# Altium schematic symbol library RF_Filter.SchLib: 200 symbols (part 1 of 2)
Pins are listed as number, name and electrical type; pins without a type are passive.

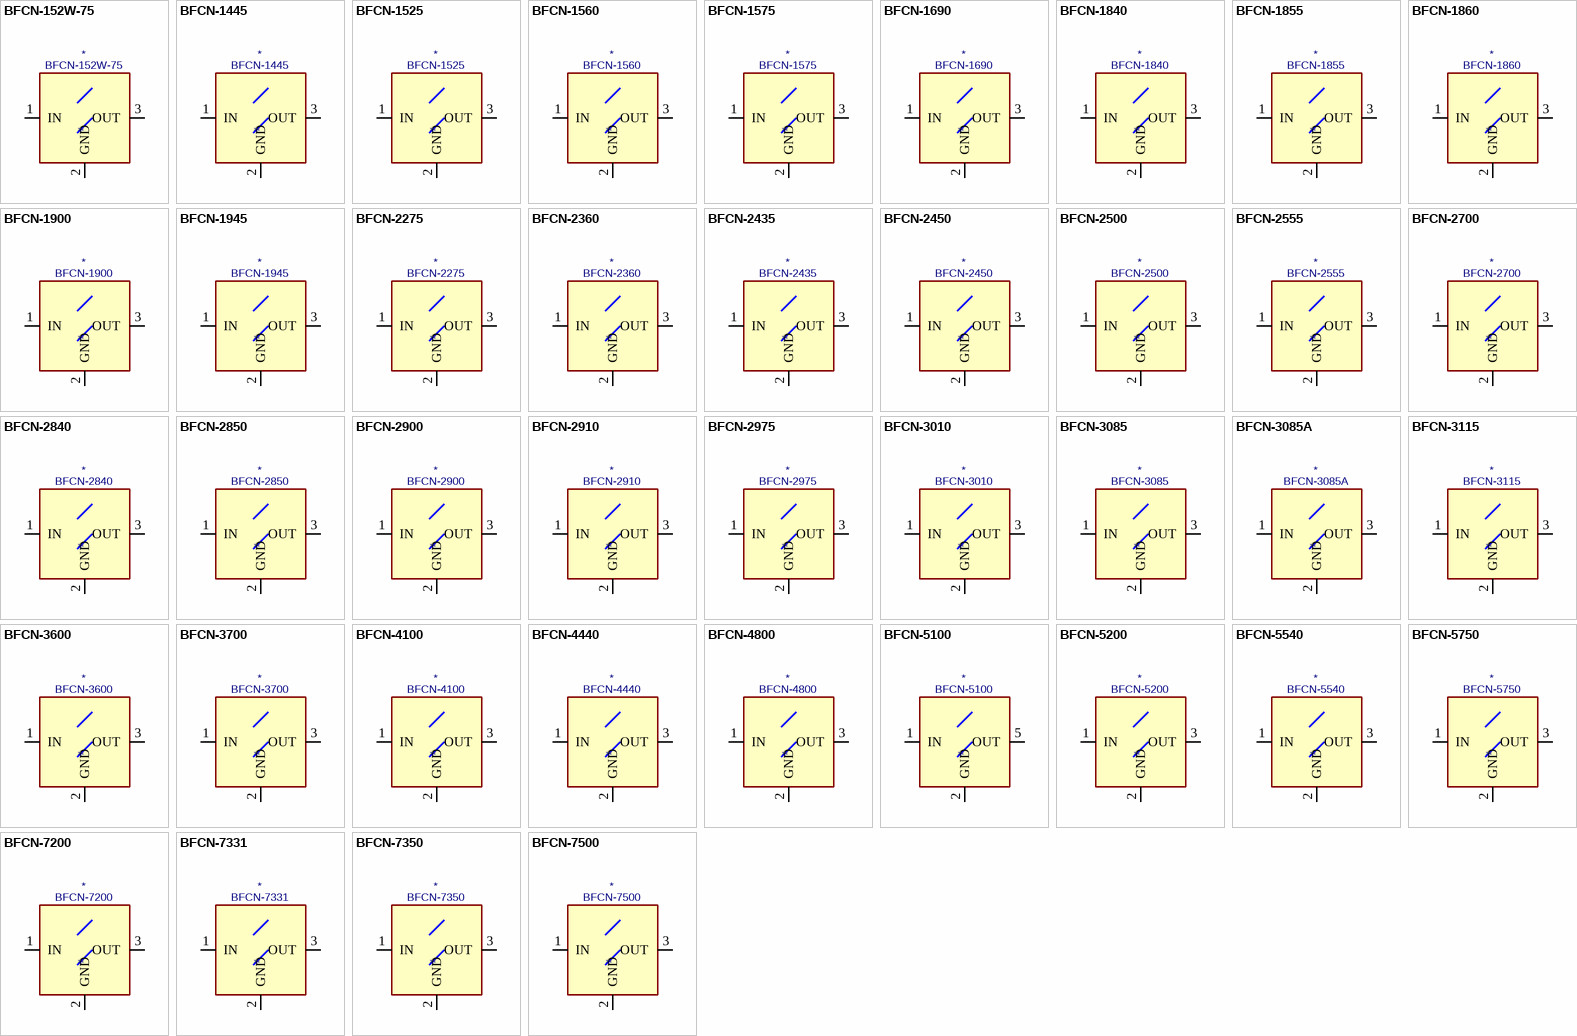
[diagram p0: symbols BFCN-152W-75 to BFCN-7500]

## BFCN-152W-75
designator *  value BFCN-152W-75
ki_keywords: Mini-Circuits band pass filter; ki_description: 950-1970MHz 75 Ohm Passive Band Pass Filter, FV1206-7; ki_fp_filters: Filter*Mini?Circuits*FV1206?7*; Footprint: Filter:Filter_Mini-Circuits_FV1206-7; Supplier: https://www.minicircuits.com/pdfs/BFCN-1445+.pdf
footprint Filter_Mini-Circuits_FV1206-7
pins: 1 IN, 2 GND, 3 OUT

## BFCN-1445
designator *  value BFCN-1445
ki_keywords: Mini-Circuits band pass filter; ki_description: 1420-1470MHz 50 Ohm Passive Band Pass Filter, FV1206; ki_fp_filters: Filter*Mini?Circuits*FV1206*; Footprint: Filter:Filter_Mini-Circuits_FV1206; Supplier: https://www.minicircuits.com/pdfs/BFCN-1445+.pdf
footprint Filter_Mini-Circuits_FV1206
pins: 1 IN, 2 GND, 3 OUT, 4 GND hidden

## BFCN-1525
designator *  value BFCN-1525
ki_keywords: Mini-Circuits band pass filter; ki_description: 1480-1570MHz 50 Ohm Passive Band Pass Filter, FV1206; ki_fp_filters: Filter*Mini?Circuits*FV1206*; Footprint: Filter:Filter_Mini-Circuits_FV1206; Supplier: https://www.minicircuits.com/pdfs/BFCN-1525+.pdf
footprint Filter_Mini-Circuits_FV1206
pins: 1 IN, 2 GND, 3 OUT, 4 GND hidden

## BFCN-1560
designator *  value BFCN-1560
ki_keywords: Mini-Circuits band pass filter; ki_description: 1500-1620MHz 50 Ohm Passive Band Pass Filter, FV1206-1; ki_fp_filters: Filter*Mini?Circuits*FV1206?1*; Footprint: Filter:Filter_Mini-Circuits_FV1206-1; Supplier: https://www.minicircuits.com/pdfs/BFCN-1560+.pdf
footprint Filter_Mini-Circuits_FV1206-1
pins: 1 IN, 2 GND, 3 OUT, 4 GND hidden, 5 GND hidden, 6 GND hidden

## BFCN-1575
designator *  value BFCN-1575
ki_keywords: Mini-Circuits band pass filter; ki_description: 1530-1620MHz 50 Ohm Passive Band Pass Filter, FV1206; ki_fp_filters: Filter*Mini?Circuits*FV1206*; Footprint: Filter:Filter_Mini-Circuits_FV1206; Supplier: https://www.minicircuits.com/pdfs/BFCN-1575+.pdf
footprint Filter_Mini-Circuits_FV1206
pins: 1 IN, 2 GND, 3 OUT, 4 GND hidden

## BFCN-1690
designator *  value BFCN-1690
ki_keywords: Mini-Circuits band pass filter; ki_description: 1570-1810MHz 50 Ohm Passive Band Pass Filter, FV1206-1; ki_fp_filters: Filter*Mini?Circuits*FV1206?1*; Footprint: Filter:Filter_Mini-Circuits_FV1206-1; Supplier: https://www.minicircuits.com/pdfs/BFCN-1690+.pdf
footprint Filter_Mini-Circuits_FV1206-1
pins: 1 IN, 2 GND, 3 OUT, 4 GND hidden, 5 GND hidden, 6 GND hidden

## BFCN-1840
designator *  value BFCN-1840
ki_keywords: Mini-Circuits band pass filter; ki_description: 1750-1930MHz 50 Ohm Passive Band Pass Filter, FV1206; ki_fp_filters: Filter*Mini?Circuits*FV1206*; Footprint: Filter:Filter_Mini-Circuits_FV1206; Supplier: https://www.minicircuits.com/pdfs/BFCN-1840+.pdf
footprint Filter_Mini-Circuits_FV1206
pins: 1 IN, 2 GND, 3 OUT, 4 GND hidden

## BFCN-1855
designator *  value BFCN-1855
ki_keywords: Mini-Circuits band pass filter; ki_description: 1790-1920MHz 50 Ohm Passive Band Pass Filter, FV1206; ki_fp_filters: Filter*Mini?Circuits*FV1206*; Footprint: Filter:Filter_Mini-Circuits_FV1206; Supplier: https://www.minicircuits.com/pdfs/BFCN-1855+.pdf
footprint Filter_Mini-Circuits_FV1206
pins: 1 IN, 2 GND, 3 OUT, 4 GND hidden

## BFCN-1860
designator *  value BFCN-1860
ki_keywords: Mini-Circuits band pass filter; ki_description: 1580-2200MHz 50 Ohm Passive Band Pass Filter, FV1206-4; ki_fp_filters: Filter*Mini?Circuits*FV1206?4*; Footprint: Filter:Filter_Mini-Circuits_FV1206-4; Supplier: https://www.minicircuits.com/pdfs/BFCN-1860+.pdf
footprint Filter_Mini-Circuits_FV1206-4
pins: 1 IN, 2 GND, 3 OUT, 4 GND hidden

## BFCN-1900
designator *  value BFCN-1900
ki_keywords: Mini-Circuits band pass filter; ki_description: 1893-1920MHz 50 Ohm Passive Band Pass Filter, FV1206-5; ki_fp_filters: Filter*Mini?Circuits*FV1206?5*; Footprint: Filter:Filter_Mini-Circuits_FV1206-5; Supplier: https://www.minicircuits.com/pdfs/BFCN-1900+.pdf
footprint Filter_Mini-Circuits_FV1206-5
pins: 1 IN, 2 GND, 3 OUT, 4 GND hidden

## BFCN-1945
designator *  value BFCN-1945
ki_keywords: Mini-Circuits band pass filter; ki_description: 1850-2040MHz 50 Ohm Passive Band Pass Filter, FV1206; ki_fp_filters: Filter*Mini?Circuits*FV1206*; Footprint: Filter:Filter_Mini-Circuits_FV1206; Supplier: https://www.minicircuits.com/pdfs/BFCN-1945+.pdf
footprint Filter_Mini-Circuits_FV1206
pins: 1 IN, 2 GND, 3 OUT, 4 GND hidden

## BFCN-2275
designator *  value BFCN-2275
ki_keywords: Mini-Circuits band pass filter; ki_description: 2170-2380MHz 50 Ohm Passive Band Pass Filter, FV1206; ki_fp_filters: Filter*Mini?Circuits*FV1206*; Footprint: Filter:Filter_Mini-Circuits_FV1206; Supplier: https://www.minicircuits.com/pdfs/BFCN-2275+.pdf
footprint Filter_Mini-Circuits_FV1206
pins: 1 IN, 2 GND, 3 OUT, 4 GND hidden

## BFCN-2360
designator *  value BFCN-2360
ki_keywords: Mini-Circuits band pass filter; ki_description: 2250-2470MHz 50 Ohm Passive Band Pass Filter, FV1206; ki_fp_filters: Filter*Mini?Circuits*FV1206*; Footprint: Filter:Filter_Mini-Circuits_FV1206; Supplier: https://www.minicircuits.com/pdfs/BFCN-2360+.pdf
footprint Filter_Mini-Circuits_FV1206
pins: 1 IN, 2 GND, 3 OUT, 4 GND hidden

## BFCN-2435
designator *  value BFCN-2435
ki_keywords: Mini-Circuits band pass filter; ki_description: 2340-2530MHz 50 Ohm Passive Band Pass Filter, FV1206; ki_fp_filters: Filter*Mini?Circuits*FV1206*; Footprint: Filter:Filter_Mini-Circuits_FV1206; Supplier: https://www.minicircuits.com/pdfs/BFCN-2435+.pdf
footprint Filter_Mini-Circuits_FV1206
pins: 1 IN, 2 GND, 3 OUT, 4 GND hidden

## BFCN-2450
designator *  value BFCN-2450
ki_keywords: Mini-Circuits band pass filter; ki_description: 2400-2550MHz 50 Ohm Passive Band Pass Filter, FV1206-4; ki_fp_filters: Filter*Mini?Circuits*FV1206?4*; Footprint: Filter:Filter_Mini-Circuits_FV1206-4; Supplier: https://www.minicircuits.com/pdfs/BFCN-2450+.pdf
footprint Filter_Mini-Circuits_FV1206-4
pins: 1 IN, 2 GND, 3 OUT, 4 GND hidden

## BFCN-2500
designator *  value BFCN-2500
ki_keywords: Mini-Circuits band pass filter; ki_description: 2100-2900MHz 50 Ohm Passive Band Pass Filter, FV1206-4; ki_fp_filters: Filter*Mini?Circuits*FV1206?4*; Footprint: Filter:Filter_Mini-Circuits_FV1206-4; Supplier: https://www.minicircuits.com/pdfs/BFCN-2500+.pdf
footprint Filter_Mini-Circuits_FV1206-4
pins: 1 IN, 2 GND, 3 OUT, 4 GND hidden

## BFCN-2555
designator *  value BFCN-2555
ki_keywords: Mini-Circuits band pass filter; ki_description: 2500-2610MHz 50 Ohm Passive Band Pass Filter, FV1206-1; ki_fp_filters: Filter*Mini?Circuits*FV1206?1*; Footprint: Filter:Filter_Mini-Circuits_FV1206-1; Supplier: https://www.minicircuits.com/pdfs/BFCN-2555+.pdf
footprint Filter_Mini-Circuits_FV1206-1
pins: 1 IN, 2 GND, 3 OUT, 4 GND hidden, 5 GND hidden, 6 GND hidden

## BFCN-2700
designator *  value BFCN-2700
ki_keywords: Mini-Circuits band pass filter; ki_description: 2600-2800MHz 50 Ohm Passive Band Pass Filter, FV1206; ki_fp_filters: Filter*Mini?Circuits*FV1206*; Footprint: Filter:Filter_Mini-Circuits_FV1206; Supplier: https://www.minicircuits.com/pdfs/BFCN-2700+.pdf
footprint Filter_Mini-Circuits_FV1206
pins: 1 IN, 2 GND, 3 OUT, 4 GND hidden

## BFCN-2840
designator *  value BFCN-2840
ki_keywords: Mini-Circuits band pass filter; ki_description: 2750-2930MHz 50 Ohm Passive Band Pass Filter, FV1206; ki_fp_filters: Filter*Mini?Circuits*FV1206*; Footprint: Filter:Filter_Mini-Circuits_FV1206; Supplier: https://www.minicircuits.com/pdfs/BFCN-2840+.pdf
footprint Filter_Mini-Circuits_FV1206
pins: 1 IN, 2 GND, 3 OUT, 4 GND hidden

## BFCN-2850
designator *  value BFCN-2850
ki_keywords: Mini-Circuits band pass filter; ki_description: 2750-2950MHz 50 Ohm Passive Band Pass Filter, FV1206; ki_fp_filters: Filter*Mini?Circuits*FV1206*; Footprint: Filter:Filter_Mini-Circuits_FV1206; Supplier: https://www.minicircuits.com/pdfs/BFCN-2850+.pdf
footprint Filter_Mini-Circuits_FV1206
pins: 1 IN, 2 GND, 3 OUT, 4 GND hidden

## BFCN-2900
designator *  value BFCN-2900
ki_keywords: Mini-Circuits band pass filter; ki_description: 2700-3100MHz 50 Ohm Passive Band Pass Filter, FV1206-1; ki_fp_filters: Filter*Mini?Circuits*FV1206?1*; Footprint: Filter:Filter_Mini-Circuits_FV1206-1; Supplier: https://www.minicircuits.com/pdfs/BFCN-2900+.pdf
footprint Filter_Mini-Circuits_FV1206-1
pins: 1 IN, 2 GND, 3 OUT, 4 GND hidden, 5 GND hidden, 6 GND hidden

## BFCN-2910
designator *  value BFCN-2910
ki_keywords: Mini-Circuits band pass filter; ki_description: 2850-2970MHz 50 Ohm Passive Band Pass Filter, FV1206; ki_fp_filters: Filter*Mini?Circuits*FV1206*; Footprint: Filter:Filter_Mini-Circuits_FV1206; Supplier: https://www.minicircuits.com/pdfs/BFCN-2910+.pdf
footprint Filter_Mini-Circuits_FV1206
pins: 1 IN, 2 GND, 3 OUT, 4 GND hidden

## BFCN-2975
designator *  value BFCN-2975
ki_keywords: Mini-Circuits band pass filter; ki_description: 2570-3440MHz 50 Ohm Passive Band Pass Filter, FV1206; ki_fp_filters: Filter*Mini?Circuits*FV1206*; Footprint: Filter:Filter_Mini-Circuits_FV1206; Supplier: https://www.minicircuits.com/pdfs/BFCN-2975+.pdf
footprint Filter_Mini-Circuits_FV1206
pins: 1 IN, 2 GND, 3 OUT, 4 GND hidden

## BFCN-3010
designator *  value BFCN-3010
ki_keywords: Mini-Circuits band pass filter; ki_description: 2920-3100MHz 50 Ohm Passive Band Pass Filter, FV1206; ki_fp_filters: Filter*Mini?Circuits*FV1206*; Footprint: Filter:Filter_Mini-Circuits_FV1206; Supplier: https://www.minicircuits.com/pdfs/BFCN-3010+.pdf
footprint Filter_Mini-Circuits_FV1206
pins: 1 IN, 2 GND, 3 OUT, 4 GND hidden

## BFCN-3085
designator *  value BFCN-3085
ki_keywords: Mini-Circuits band pass filter; ki_description: 2800-3400MHz 50 Ohm Passive Band Pass Filter, FV1206; ki_fp_filters: Filter*Mini?Circuits*FV1206*; Footprint: Filter:Filter_Mini-Circuits_FV1206; Supplier: https://www.minicircuits.com/pdfs/BFCN-3085+.pdf
footprint Filter_Mini-Circuits_FV1206
pins: 1 IN, 2 GND, 3 OUT, 4 GND hidden

## BFCN-3085A
designator *  value BFCN-3085A
ki_keywords: Mini-Circuits band pass filter; ki_description: 2800-3400MHz 50 Ohm Passive Band Pass Filter, FV1206; ki_fp_filters: Filter*Mini?Circuits*FV1206*; Footprint: Filter:Filter_Mini-Circuits_FV1206; Supplier: https://www.minicircuits.com/pdfs/BFCN-3085A+.pdf
footprint Filter_Mini-Circuits_FV1206
pins: 1 IN, 2 GND, 3 OUT, 4 GND hidden

## BFCN-3115
designator *  value BFCN-3115
ki_keywords: Mini-Circuits band pass filter; ki_description: 2720-3570MHz 50 Ohm Passive Band Pass Filter, FV1206; ki_fp_filters: Filter*Mini?Circuits*FV1206*; Footprint: Filter:Filter_Mini-Circuits_FV1206; Supplier: https://www.minicircuits.com/pdfs/BFCN-3115+.pdf
footprint Filter_Mini-Circuits_FV1206
pins: 1 IN, 2 GND, 3 OUT, 4 GND hidden

## BFCN-3600
designator *  value BFCN-3600
ki_keywords: Mini-Circuits band pass filter; ki_description: 3300-3900MHz 50 Ohm Passive Band Pass Filter, FV1206; ki_fp_filters: Filter*Mini?Circuits*FV1206*; Footprint: Filter:Filter_Mini-Circuits_FV1206; Supplier: https://www.minicircuits.com/pdfs/BFCN-3600+.pdf
footprint Filter_Mini-Circuits_FV1206
pins: 1 IN, 2 GND, 3 OUT, 4 GND hidden

## BFCN-3700
designator *  value BFCN-3700
ki_keywords: Mini-Circuits band pass filter; ki_description: 3000-4600MHz 50 Ohm Passive Band Pass Filter, FV1206-4; ki_fp_filters: Filter*Mini?Circuits*FV1206?4*; Footprint: Filter:Filter_Mini-Circuits_FV1206-4; Supplier: https://www.minicircuits.com/pdfs/BFCN-3700+.pdf
footprint Filter_Mini-Circuits_FV1206-4
pins: 1 IN, 2 GND, 3 OUT, 4 GND hidden

## BFCN-4100
designator *  value BFCN-4100
ki_keywords: Mini-Circuits band pass filter; ki_description: 3700-4500MHz 50 Ohm Passive Band Pass Filter, FV1206; ki_fp_filters: Filter*Mini?Circuits*FV1206*; Footprint: Filter:Filter_Mini-Circuits_FV1206; Supplier: https://www.minicircuits.com/pdfs/BFCN-4100+.pdf
footprint Filter_Mini-Circuits_FV1206
pins: 1 IN, 2 GND, 3 OUT, 4 GND hidden

## BFCN-4440
designator *  value BFCN-4440
ki_keywords: Mini-Circuits band pass filter; ki_description: 4200-4700MHz 50 Ohm Passive Band Pass Filter, FV1206; ki_fp_filters: Filter*Mini?Circuits*FV1206*; Footprint: Filter:Filter_Mini-Circuits_FV1206; Supplier: https://www.minicircuits.com/pdfs/BFCN-4440+.pdf
footprint Filter_Mini-Circuits_FV1206
pins: 1 IN, 2 GND, 3 OUT, 4 GND hidden

## BFCN-4800
designator *  value BFCN-4800
ki_keywords: Mini-Circuits band pass filter; ki_description: 4400-5200MHz 50 Ohm Passive Band Pass Filter, FV1206; ki_fp_filters: Filter*Mini?Circuits*FV1206*; Footprint: Filter:Filter_Mini-Circuits_FV1206; Supplier: https://www.minicircuits.com/pdfs/BFCN-4800+.pdf
footprint Filter_Mini-Circuits_FV1206
pins: 1 IN, 2 GND, 3 OUT, 4 GND hidden

## BFCN-5100
designator *  value BFCN-5100
ki_keywords: Mini-Circuits band pass filter; ki_description: 3100-7100MHz 50 Ohm Passive Band Pass Filter, FV1206-6; ki_fp_filters: Filter*Mini?Circuits*FV1206?6*; Footprint: Filter:Filter_Mini-Circuits_FV1206-6; Supplier: https://www.minicircuits.com/pdfs/BFCN-5100+.pdf
footprint Filter_Mini-Circuits_FV1206-6
pins: 1 IN, 2 GND, 3 GND hidden, 4 GND hidden, 5 OUT, 6 GND hidden, 7 GND hidden, 8 GND hidden

## BFCN-5200
designator *  value BFCN-5200
ki_keywords: Mini-Circuits band pass filter; ki_description: 4250-6300MHz 50 Ohm Passive Band Pass Filter, FV1206-4; ki_fp_filters: Filter*Mini?Circuits*FV1206?4*; Footprint: Filter:Filter_Mini-Circuits_FV1206-4; Supplier: https://www.minicircuits.com/pdfs/BFCN-5200+.pdf
footprint Filter_Mini-Circuits_FV1206-4
pins: 1 IN, 2 GND, 3 OUT, 4 GND hidden

## BFCN-5540
designator *  value BFCN-5540
ki_keywords: Mini-Circuits band pass filter; ki_description: 4620-6640MHz 50 Ohm Passive Band Pass Filter, FV1206-4; ki_fp_filters: Filter*Mini?Circuits*FV1206?4*; Footprint: Filter:Filter_Mini-Circuits_FV1206-4; Supplier: https://www.minicircuits.com/pdfs/BFCN-5540+.pdf
footprint Filter_Mini-Circuits_FV1206-4
pins: 1 IN, 2 GND, 3 OUT, 4 GND hidden

## BFCN-5750
designator *  value BFCN-5750
ki_keywords: Mini-Circuits band pass filter; ki_description: 5650-5850MHz 50 Ohm Passive Band Pass Filter, FV1206-4; ki_fp_filters: Filter*Mini?Circuits*FV1206?4*; Footprint: Filter:Filter_Mini-Circuits_FV1206-4; Supplier: https://www.minicircuits.com/pdfs/BFCN-5750+.pdf
footprint Filter_Mini-Circuits_FV1206-4
pins: 1 IN, 2 GND, 3 OUT, 4 GND hidden

## BFCN-7200
designator *  value BFCN-7200
ki_keywords: Mini-Circuits band pass filter; ki_description: 7100-7300MHz 50 Ohm Passive Band Pass Filter, FV1206-4; ki_fp_filters: Filter*Mini?Circuits*FV1206?4*; Footprint: Filter:Filter_Mini-Circuits_FV1206-4; Supplier: https://www.minicircuits.com/pdfs/BFCN-7200+.pdf
footprint Filter_Mini-Circuits_FV1206-4
pins: 1 IN, 2 GND, 3 OUT, 4 GND hidden

## BFCN-7331
designator *  value BFCN-7331
ki_keywords: Mini-Circuits band pass filter; ki_description: 6850-7850MHz 50 Ohm Passive Band Pass Filter, FV1206-4; ki_fp_filters: Filter*Mini?Circuits*FV1206?4*; Footprint: Filter:Filter_Mini-Circuits_FV1206-4; Supplier: https://www.minicircuits.com/pdfs/BFCN-7331+.pdf
footprint Filter_Mini-Circuits_FV1206-4
pins: 1 IN, 2 GND, 3 OUT, 4 GND hidden

## BFCN-7350
designator *  value BFCN-7350
ki_keywords: Mini-Circuits band pass filter; ki_description: 7150-7550MHz 50 Ohm Passive Band Pass Filter, FV1206-4; ki_fp_filters: Filter*Mini?Circuits*FV1206?4*; Footprint: Filter:Filter_Mini-Circuits_FV1206-4; Supplier: https://www.minicircuits.com/pdfs/BFCN-7350+.pdf
footprint Filter_Mini-Circuits_FV1206-4
pins: 1 IN, 2 GND, 3 OUT, 4 GND hidden

## BFCN-7500
designator *  value BFCN-7500
ki_keywords: Mini-Circuits band pass filter; ki_description: 7450-7650MHz 50 Ohm Passive Band Pass Filter, FV1206-4; ki_fp_filters: Filter*Mini?Circuits*FV1206?4*; Footprint: Filter:Filter_Mini-Circuits_FV1206-4; Supplier: https://www.minicircuits.com/pdfs/BFCN-7500+.pdf
footprint Filter_Mini-Circuits_FV1206-4
pins: 1 IN, 2 GND, 3 OUT, 4 GND hidden

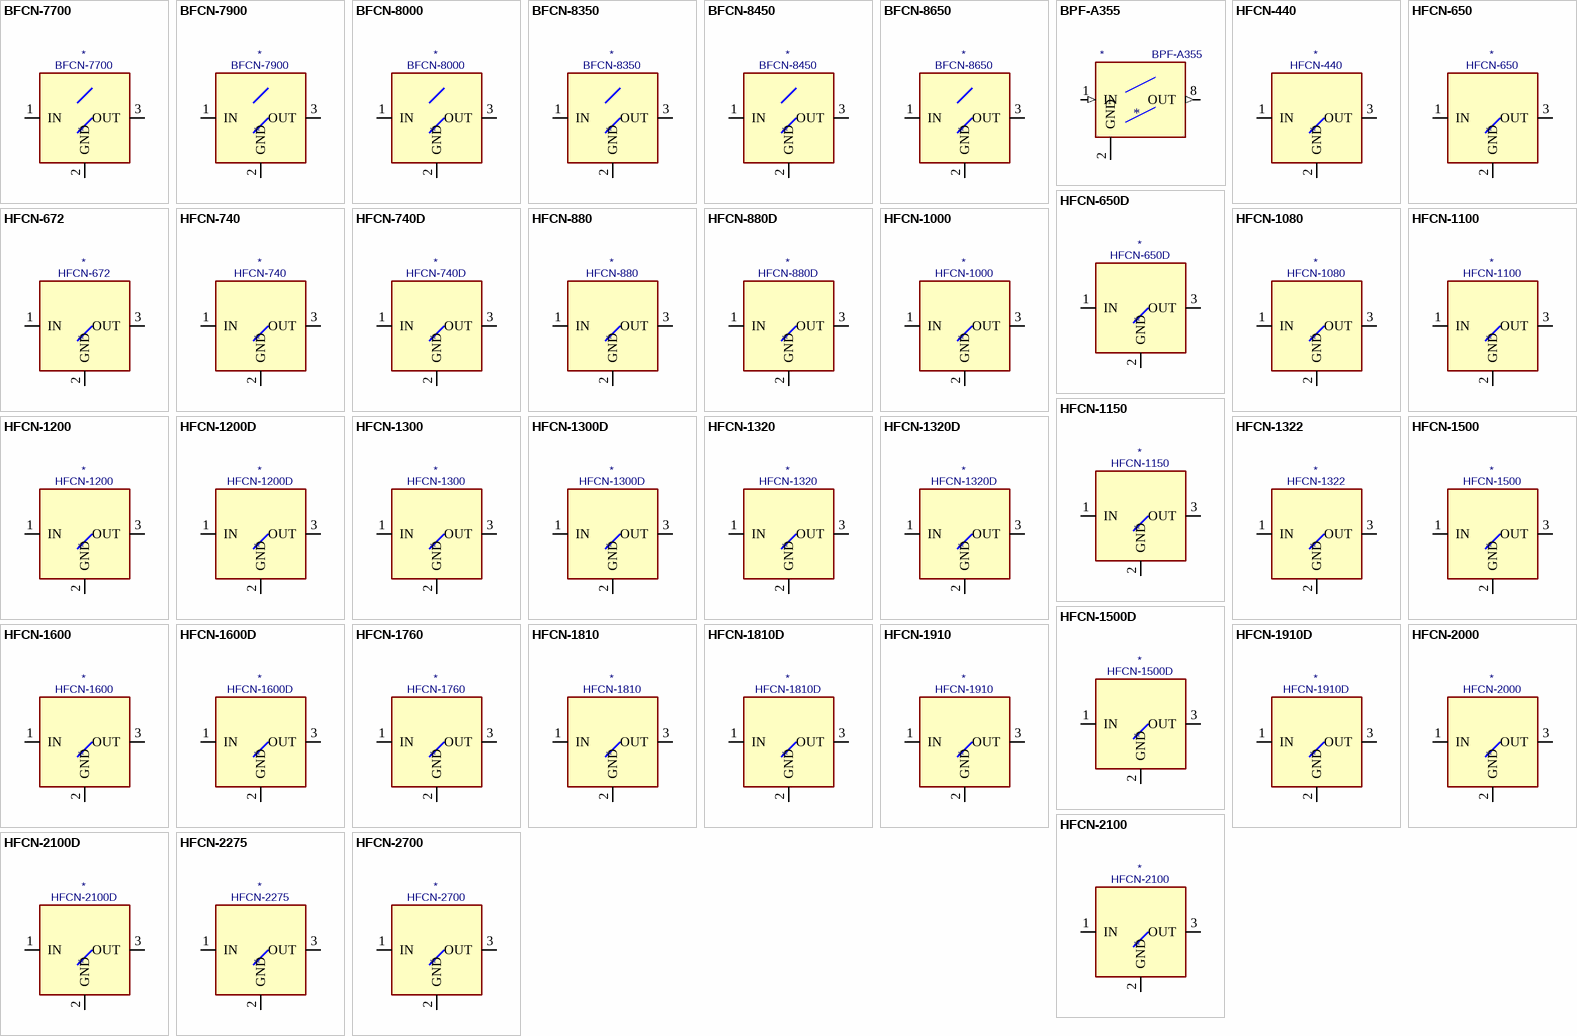
[diagram p1: symbols BFCN-7700 to HFCN-2700]

## BFCN-7700
designator *  value BFCN-7700
ki_keywords: Mini-Circuits band pass filter; ki_description: 7500-7900MHz 50 Ohm Passive Band Pass Filter, FV1206-4; ki_fp_filters: Filter*Mini?Circuits*FV1206?4*; Footprint: Filter:Filter_Mini-Circuits_FV1206-4; Supplier: https://www.minicircuits.com/pdfs/BFCN-7700+.pdf
footprint Filter_Mini-Circuits_FV1206-4
pins: 1 IN, 2 GND, 3 OUT, 4 GND hidden

## BFCN-7900
designator *  value BFCN-7900
ki_keywords: Mini-Circuits band pass filter; ki_description: 7800-8100MHz 50 Ohm Passive Band Pass Filter, FV1206-4; ki_fp_filters: Filter*Mini?Circuits*FV1206?4*; Footprint: Filter:Filter_Mini-Circuits_FV1206-4; Supplier: https://www.minicircuits.com/pdfs/BFCN-7900+.pdf
footprint Filter_Mini-Circuits_FV1206-4
pins: 1 IN, 2 GND, 3 OUT, 4 GND hidden

## BFCN-8000
designator *  value BFCN-8000
ki_keywords: Mini-Circuits band pass filter; ki_description: 7900-8100MHz 50 Ohm Passive Band Pass Filter, FV1206-4; ki_fp_filters: Filter*Mini?Circuits*FV1206?4*; Footprint: Filter:Filter_Mini-Circuits_FV1206-4; Supplier: https://www.minicircuits.com/pdfs/BFCN-8000+.pdf
footprint Filter_Mini-Circuits_FV1206-4
pins: 1 IN, 2 GND, 3 OUT, 4 GND hidden

## BFCN-8350
designator *  value BFCN-8350
ki_keywords: Mini-Circuits band pass filter; ki_description: 8250-8450MHz 50 Ohm Passive Band Pass Filter, FV1206-4; ki_fp_filters: Filter*Mini?Circuits*FV1206?4*; Footprint: Filter:Filter_Mini-Circuits_FV1206-4; Supplier: https://www.minicircuits.com/pdfs/BFCN-8350+.pdf
footprint Filter_Mini-Circuits_FV1206-4
pins: 1 IN, 2 GND, 3 OUT, 4 GND hidden

## BFCN-8450
designator *  value BFCN-8450
ki_keywords: Mini-Circuits band pass filter; ki_description: 8350-8550MHz 50 Ohm Passive Band Pass Filter, FV1206-4; ki_fp_filters: Filter*Mini?Circuits*FV1206?4*; Footprint: Filter:Filter_Mini-Circuits_FV1206-4; Supplier: https://www.minicircuits.com/pdfs/BFCN-8450+.pdf
footprint Filter_Mini-Circuits_FV1206-4
pins: 1 IN, 2 GND, 3 OUT, 4 GND hidden

## BFCN-8650
designator *  value BFCN-8650
ki_keywords: Mini-Circuits band pass filter; ki_description: 8550-8750MHz 50 Ohm Passive Band Pass Filter, FV1206-4; ki_fp_filters: Filter*Mini?Circuits*FV1206?4*; Footprint: Filter:Filter_Mini-Circuits_FV1206-4; Supplier: https://www.minicircuits.com/pdfs/BFCN-8650+.pdf
footprint Filter_Mini-Circuits_FV1206-4
pins: 1 IN, 2 GND, 3 OUT, 4 GND hidden

## BPF-A355
designator *  value BPF-A355
ki_keywords: Bandpass Filter; ki_description: Bandpass Filter, 310 to 400 MHz, 50 Ohm, Mini-Circuits HQ1157; ki_fp_filters: Mini?Circuits*HQ1157*; Footprint: RF_Mini-Circuits:Mini-Circuits_HQ1157; Supplier: https://www.minicircuits.com/pdfs/BPF-A355+.pdf
footprint Mini-Circuits_HQ1157
pins: 1 IN (in), 2 GND (power), 3 GND hidden, 4 GND hidden, 5 GND hidden, 6 GND hidden, 7 GND hidden, 8 OUT (out), 9 GND hidden, 10 GND hidden, 11 GND hidden, 12 GND hidden, 13 GND hidden, 14 GND hidden

## HFCN-440
designator *  value HFCN-440
ki_keywords: Mini-Circuits high pass filter; ki_description: 440MHz 50 Ohm Passive High Pass Filter, FV1206; ki_fp_filters: Filter*Mini?Circuits*FV1206*; Footprint: Filter:Filter_Mini-Circuits_FV1206; Supplier: https://www.minicircuits.com/pdfs/HFCN-440+.pdf
footprint Filter_Mini-Circuits_FV1206
pins: 1 IN, 2 GND, 3 OUT, 4 GND hidden

## HFCN-650
designator *  value HFCN-650
ki_keywords: Mini-Circuits high pass filter; ki_description: 650MHz 50 Ohm Passive High Pass Filter, FV1206; ki_fp_filters: Filter*Mini?Circuits*FV1206*; Footprint: Filter:Filter_Mini-Circuits_FV1206; Supplier: https://www.minicircuits.com/pdfs/HFCN-650+.pdf
footprint Filter_Mini-Circuits_FV1206
pins: 1 IN, 2 GND, 3 OUT, 4 GND hidden

## HFCN-650D
designator *  value HFCN-650D
ki_keywords: Mini-Circuits high pass filter; ki_description: 650MHz 50 Ohm Passive High Pass Filter, DC capable, FV1206; ki_fp_filters: Filter*Mini?Circuits*FV1206*; Footprint: Filter:Filter_Mini-Circuits_FV1206; Supplier: https://www.minicircuits.com/pdfs/HFCN-650D+.pdf
footprint Filter_Mini-Circuits_FV1206
pins: 1 IN, 2 GND, 3 OUT, 4 GND hidden

## HFCN-672
designator *  value HFCN-672
ki_keywords: Mini-Circuits high pass filter; ki_description: 6275MHz 50 Ohm Passive High Pass Filter, FV1206-1; ki_fp_filters: Filter*Mini?Circuits*FV1206?1*; Footprint: Filter:Filter_Mini-Circuits_FV1206-1; Supplier: https://www.minicircuits.com/pdfs/HFCN-672+.pdf
footprint Filter_Mini-Circuits_FV1206-1
pins: 1 IN, 2 GND, 3 OUT, 4 GND hidden, 5 GND hidden, 6 GND hidden

## HFCN-740
designator *  value HFCN-740
ki_keywords: Mini-Circuits high pass filter; ki_description: 740MHz 50 Ohm Passive High Pass Filter, FV1206; ki_fp_filters: Filter*Mini?Circuits*FV1206*; Footprint: Filter:Filter_Mini-Circuits_FV1206; Supplier: https://www.minicircuits.com/pdfs/HFCN-740+.pdf
footprint Filter_Mini-Circuits_FV1206
pins: 1 IN, 2 GND, 3 OUT, 4 GND hidden

## HFCN-740D
designator *  value HFCN-740D
ki_keywords: Mini-Circuits high pass filter; ki_description: 740MHz 50 Ohm Passive High Pass Filter, DC capable, FV1206; ki_fp_filters: Filter*Mini?Circuits*FV1206*; Footprint: Filter:Filter_Mini-Circuits_FV1206; Supplier: https://www.minicircuits.com/pdfs/HFCN-740D+.pdf
footprint Filter_Mini-Circuits_FV1206
pins: 1 IN, 2 GND, 3 OUT, 4 GND hidden

## HFCN-880
designator *  value HFCN-880
ki_keywords: Mini-Circuits high pass filter; ki_description: 880MHz 50 Ohm Passive High Pass Filter, FV1206; ki_fp_filters: Filter*Mini?Circuits*FV1206*; Footprint: Filter:Filter_Mini-Circuits_FV1206; Supplier: https://www.minicircuits.com/pdfs/HFCN-880+.pdf
footprint Filter_Mini-Circuits_FV1206
pins: 1 IN, 2 GND, 3 OUT, 4 GND hidden

## HFCN-880D
designator *  value HFCN-880D
ki_keywords: Mini-Circuits high pass filter; ki_description: 880MHz 50 Ohm Passive High Pass Filter, DC capable, FV1206; ki_fp_filters: Filter*Mini?Circuits*FV1206*; Footprint: Filter:Filter_Mini-Circuits_FV1206; Supplier: https://www.minicircuits.com/pdfs/HFCN-880D+.pdf
footprint Filter_Mini-Circuits_FV1206
pins: 1 IN, 2 GND, 3 OUT, 4 GND hidden

## HFCN-1000
designator *  value HFCN-1000
ki_keywords: Mini-Circuits high pass filter; ki_description: 1000MHz 50 Ohm Passive High Pass Filter, FV1206; ki_fp_filters: Filter*Mini?Circuits*FV1206*; Footprint: Filter:Filter_Mini-Circuits_FV1206; Supplier: https://www.minicircuits.com/pdfs/HFCN-1000+.pdf
footprint Filter_Mini-Circuits_FV1206
pins: 1 IN, 2 GND, 3 OUT, 4 GND hidden

## HFCN-1080
designator *  value HFCN-1080
ki_keywords: Mini-Circuits high pass filter; ki_description: 1080MHz 50 Ohm Passive High Pass Filter, FV1206; ki_fp_filters: Filter*Mini?Circuits*FV1206*; Footprint: Filter:Filter_Mini-Circuits_FV1206; Supplier: https://www.minicircuits.com/pdfs/HFCN-1080+.pdf
footprint Filter_Mini-Circuits_FV1206
pins: 1 IN, 2 GND, 3 OUT, 4 GND hidden

## HFCN-1100
designator *  value HFCN-1100
ki_keywords: Mini-Circuits high pass filter; ki_description: 1100MHz 50 Ohm Passive High Pass Filter, FV1206; ki_fp_filters: Filter*Mini?Circuits*FV1206*; Footprint: Filter:Filter_Mini-Circuits_FV1206; Supplier: https://www.minicircuits.com/pdfs/HFCN-1100+.pdf
footprint Filter_Mini-Circuits_FV1206
pins: 1 IN, 2 GND, 3 OUT, 4 GND hidden

## HFCN-1150
designator *  value HFCN-1150
ki_keywords: Mini-Circuits high pass filter; ki_description: 1150MHz 50 Ohm Passive High Pass Filter, FV1206; ki_fp_filters: Filter*Mini?Circuits*FV1206*; Footprint: Filter:Filter_Mini-Circuits_FV1206; Supplier: https://www.minicircuits.com/pdfs/HFCN-1150+.pdf
footprint Filter_Mini-Circuits_FV1206
pins: 1 IN, 2 GND, 3 OUT, 4 GND hidden

## HFCN-1200
designator *  value HFCN-1200
ki_keywords: Mini-Circuits high pass filter; ki_description: 1180MHz 50 Ohm Passive High Pass Filter, FV1206; ki_fp_filters: Filter*Mini?Circuits*FV1206*; Footprint: Filter:Filter_Mini-Circuits_FV1206; Supplier: https://www.minicircuits.com/pdfs/HFCN-1200+.pdf
footprint Filter_Mini-Circuits_FV1206
pins: 1 IN, 2 GND, 3 OUT, 4 GND hidden

## HFCN-1200D
designator *  value HFCN-1200D
ki_keywords: Mini-Circuits high pass filter; ki_description: 1180MHz 50 Ohm Passive High Pass Filter, DC capable, FV1206; ki_fp_filters: Filter*Mini?Circuits*FV1206*; Footprint: Filter:Filter_Mini-Circuits_FV1206; Supplier: https://www.minicircuits.com/pdfs/HFCN-1200D+.pdf
footprint Filter_Mini-Circuits_FV1206
pins: 1 IN, 2 GND, 3 OUT, 4 GND hidden

## HFCN-1300
designator *  value HFCN-1300
ki_keywords: Mini-Circuits high pass filter; ki_description: 1300MHz 50 Ohm Passive High Pass Filter, FV1206; ki_fp_filters: Filter*Mini?Circuits*FV1206*; Footprint: Filter:Filter_Mini-Circuits_FV1206; Supplier: https://www.minicircuits.com/pdfs/HFCN-1300+.pdf
footprint Filter_Mini-Circuits_FV1206
pins: 1 IN, 2 GND, 3 OUT, 4 GND hidden

## HFCN-1300D
designator *  value HFCN-1300D
ki_keywords: Mini-Circuits high pass filter; ki_description: 1300MHz 50 Ohm Passive High Pass Filter, DC capable, FV1206; ki_fp_filters: Filter*Mini?Circuits*FV1206*; Footprint: Filter:Filter_Mini-Circuits_FV1206; Supplier: https://www.minicircuits.com/pdfs/HFCN-1300D+.pdf
footprint Filter_Mini-Circuits_FV1206
pins: 1 IN, 2 GND, 3 OUT, 4 GND hidden

## HFCN-1320
designator *  value HFCN-1320
ki_keywords: Mini-Circuits high pass filter; ki_description: 1320MHz 50 Ohm Passive High Pass Filter, FV1206; ki_fp_filters: Filter*Mini?Circuits*FV1206*; Footprint: Filter:Filter_Mini-Circuits_FV1206; Supplier: https://www.minicircuits.com/pdfs/HFCN-1320+.pdf
footprint Filter_Mini-Circuits_FV1206
pins: 1 IN, 2 GND, 3 OUT, 4 GND hidden

## HFCN-1320D
designator *  value HFCN-1320D
ki_keywords: Mini-Circuits high pass filter; ki_description: 1320MHz 50 Ohm Passive High Pass Filter, DC capable, FV1206; ki_fp_filters: Filter*Mini?Circuits*FV1206*; Footprint: Filter:Filter_Mini-Circuits_FV1206; Supplier: https://www.minicircuits.com/pdfs/HFCN-1320D+.pdf
footprint Filter_Mini-Circuits_FV1206
pins: 1 IN, 2 GND, 3 OUT, 4 GND hidden

## HFCN-1322
designator *  value HFCN-1322
ki_keywords: Mini-Circuits high pass filter; ki_description: 13300MHz 50 Ohm Passive High Pass Filter, FV1206-4; ki_fp_filters: Filter*Mini?Circuits*FV1206?4*; Footprint: Filter:Filter_Mini-Circuits_FV1206-4; Supplier: https://www.minicircuits.com/pdfs/HFCN-1322+.pdf
footprint Filter_Mini-Circuits_FV1206-4
pins: 1 IN, 2 GND, 3 OUT, 4 GND hidden

## HFCN-1500
designator *  value HFCN-1500
ki_keywords: Mini-Circuits high pass filter; ki_description: 1550MHz 50 Ohm Passive High Pass Filter, FV1206; ki_fp_filters: Filter*Mini?Circuits*FV1206*; Footprint: Filter:Filter_Mini-Circuits_FV1206; Supplier: https://www.minicircuits.com/pdfs/HFCN-1500+.pdf
footprint Filter_Mini-Circuits_FV1206
pins: 1 IN, 2 GND, 3 OUT, 4 GND hidden

## HFCN-1500D
designator *  value HFCN-1500D
ki_keywords: Mini-Circuits high pass filter; ki_description: 1550MHz 50 Ohm Passive High Pass Filter, DC capable, FV1206; ki_fp_filters: Filter*Mini?Circuits*FV1206*; Footprint: Filter:Filter_Mini-Circuits_FV1206; Supplier: https://www.minicircuits.com/pdfs/HFCN-1500D+.pdf
footprint Filter_Mini-Circuits_FV1206
pins: 1 IN, 2 GND, 3 OUT, 4 GND hidden

## HFCN-1600
designator *  value HFCN-1600
ki_keywords: Mini-Circuits high pass filter; ki_description: 1600MHz 50 Ohm Passive High Pass Filter, FV1206; ki_fp_filters: Filter*Mini?Circuits*FV1206*; Footprint: Filter:Filter_Mini-Circuits_FV1206; Supplier: https://www.minicircuits.com/pdfs/HFCN-1600+.pdf
footprint Filter_Mini-Circuits_FV1206
pins: 1 IN, 2 GND, 3 OUT, 4 GND hidden

## HFCN-1600D
designator *  value HFCN-1600D
ki_keywords: Mini-Circuits high pass filter; ki_description: 1600MHz 50 Ohm Passive High Pass Filter, DC capable, FV1206; ki_fp_filters: Filter*Mini?Circuits*FV1206*; Footprint: Filter:Filter_Mini-Circuits_FV1206; Supplier: https://www.minicircuits.com/pdfs/HFCN-1600D+.pdf
footprint Filter_Mini-Circuits_FV1206
pins: 1 IN, 2 GND, 3 OUT, 4 GND hidden

## HFCN-1760
designator *  value HFCN-1760
ki_keywords: Mini-Circuits high pass filter; ki_description: 1760MHz 50 Ohm Passive High Pass Filter, FV1206; ki_fp_filters: Filter*Mini?Circuits*FV1206*; Footprint: Filter:Filter_Mini-Circuits_FV1206; Supplier: https://www.minicircuits.com/pdfs/HFCN-1760+.pdf
footprint Filter_Mini-Circuits_FV1206
pins: 1 IN, 2 GND, 3 OUT, 4 GND hidden

## HFCN-1810
designator *  value HFCN-1810
ki_keywords: Mini-Circuits high pass filter; ki_description: 1810MHz 50 Ohm Passive High Pass Filter, FV1206; ki_fp_filters: Filter*Mini?Circuits*FV1206*; Footprint: Filter:Filter_Mini-Circuits_FV1206; Supplier: https://www.minicircuits.com/pdfs/HFCN-1810+.pdf
footprint Filter_Mini-Circuits_FV1206
pins: 1 IN, 2 GND, 3 OUT, 4 GND hidden

## HFCN-1810D
designator *  value HFCN-1810D
ki_keywords: Mini-Circuits high pass filter; ki_description: 1810MHz 50 Ohm Passive High Pass Filter, DC capable, FV1206; ki_fp_filters: Filter*Mini?Circuits*FV1206*; Footprint: Filter:Filter_Mini-Circuits_FV1206; Supplier: https://www.minicircuits.com/pdfs/HFCN-1810D+.pdf
footprint Filter_Mini-Circuits_FV1206
pins: 1 IN, 2 GND, 3 OUT, 4 GND hidden

## HFCN-1910
designator *  value HFCN-1910
ki_keywords: Mini-Circuits high pass filter; ki_description: 1910MHz 50 Ohm Passive High Pass Filter, FV1206; ki_fp_filters: Filter*Mini?Circuits*FV1206*; Footprint: Filter:Filter_Mini-Circuits_FV1206; Supplier: https://www.minicircuits.com/pdfs/HFCN-1910+.pdf
footprint Filter_Mini-Circuits_FV1206
pins: 1 IN, 2 GND, 3 OUT, 4 GND hidden

## HFCN-1910D
designator *  value HFCN-1910D
ki_keywords: Mini-Circuits high pass filter; ki_description: 1910MHz 50 Ohm Passive High Pass Filter, DC capable, FV1206; ki_fp_filters: Filter*Mini?Circuits*FV1206*; Footprint: Filter:Filter_Mini-Circuits_FV1206; Supplier: https://www.minicircuits.com/pdfs/HFCN-1910D+.pdf
footprint Filter_Mini-Circuits_FV1206
pins: 1 IN, 2 GND, 3 OUT, 4 GND hidden

## HFCN-2000
designator *  value HFCN-2000
ki_keywords: Mini-Circuits high pass filter; ki_description: 2000MHz 50 Ohm Passive High Pass Filter, FV1206; ki_fp_filters: Filter*Mini?Circuits*FV1206*; Footprint: Filter:Filter_Mini-Circuits_FV1206; Supplier: https://www.minicircuits.com/pdfs/HFCN-2000.pdf
footprint Filter_Mini-Circuits_FV1206
pins: 1 IN, 2 GND, 3 OUT, 4 GND hidden

## HFCN-2100
designator *  value HFCN-2100
ki_keywords: Mini-Circuits high pass filter; ki_description: 2100MHz 50 Ohm Passive High Pass Filter, FV1206; ki_fp_filters: Filter*Mini?Circuits*FV1206*; Footprint: Filter:Filter_Mini-Circuits_FV1206; Supplier: https://www.minicircuits.com/pdfs/HFCN-2100+.pdf
footprint Filter_Mini-Circuits_FV1206
pins: 1 IN, 2 GND, 3 OUT, 4 GND hidden

## HFCN-2100D
designator *  value HFCN-2100D
ki_keywords: Mini-Circuits high pass filter; ki_description: 2100MHz 50 Ohm Passive High Pass Filter, DC capable, FV1206; ki_fp_filters: Filter*Mini?Circuits*FV1206*; Footprint: Filter:Filter_Mini-Circuits_FV1206; Supplier: https://www.minicircuits.com/pdfs/HFCN-2100D+.pdf
footprint Filter_Mini-Circuits_FV1206
pins: 1 IN, 2 GND, 3 OUT, 4 GND hidden

## HFCN-2275
designator *  value HFCN-2275
ki_keywords: Mini-Circuits high pass filter; ki_description: 2275MHz 50 Ohm Passive High Pass Filter, FV1206; ki_fp_filters: Filter*Mini?Circuits*FV1206*; Footprint: Filter:Filter_Mini-Circuits_FV1206; Supplier: https://www.minicircuits.com/pdfs/HFCN-2275+.pdf
footprint Filter_Mini-Circuits_FV1206
pins: 1 IN, 2 GND, 3 OUT, 4 GND hidden

## HFCN-2700
designator *  value HFCN-2700
ki_keywords: Mini-Circuits high pass filter; ki_description: 2500MHz 50 Ohm Passive High Pass Filter, FV1206; ki_fp_filters: Filter*Mini?Circuits*FV1206*; Footprint: Filter:Filter_Mini-Circuits_FV1206; Supplier: https://www.minicircuits.com/pdfs/HFCN-2700+.pdf
footprint Filter_Mini-Circuits_FV1206
pins: 1 IN, 2 GND, 3 OUT, 4 GND hidden

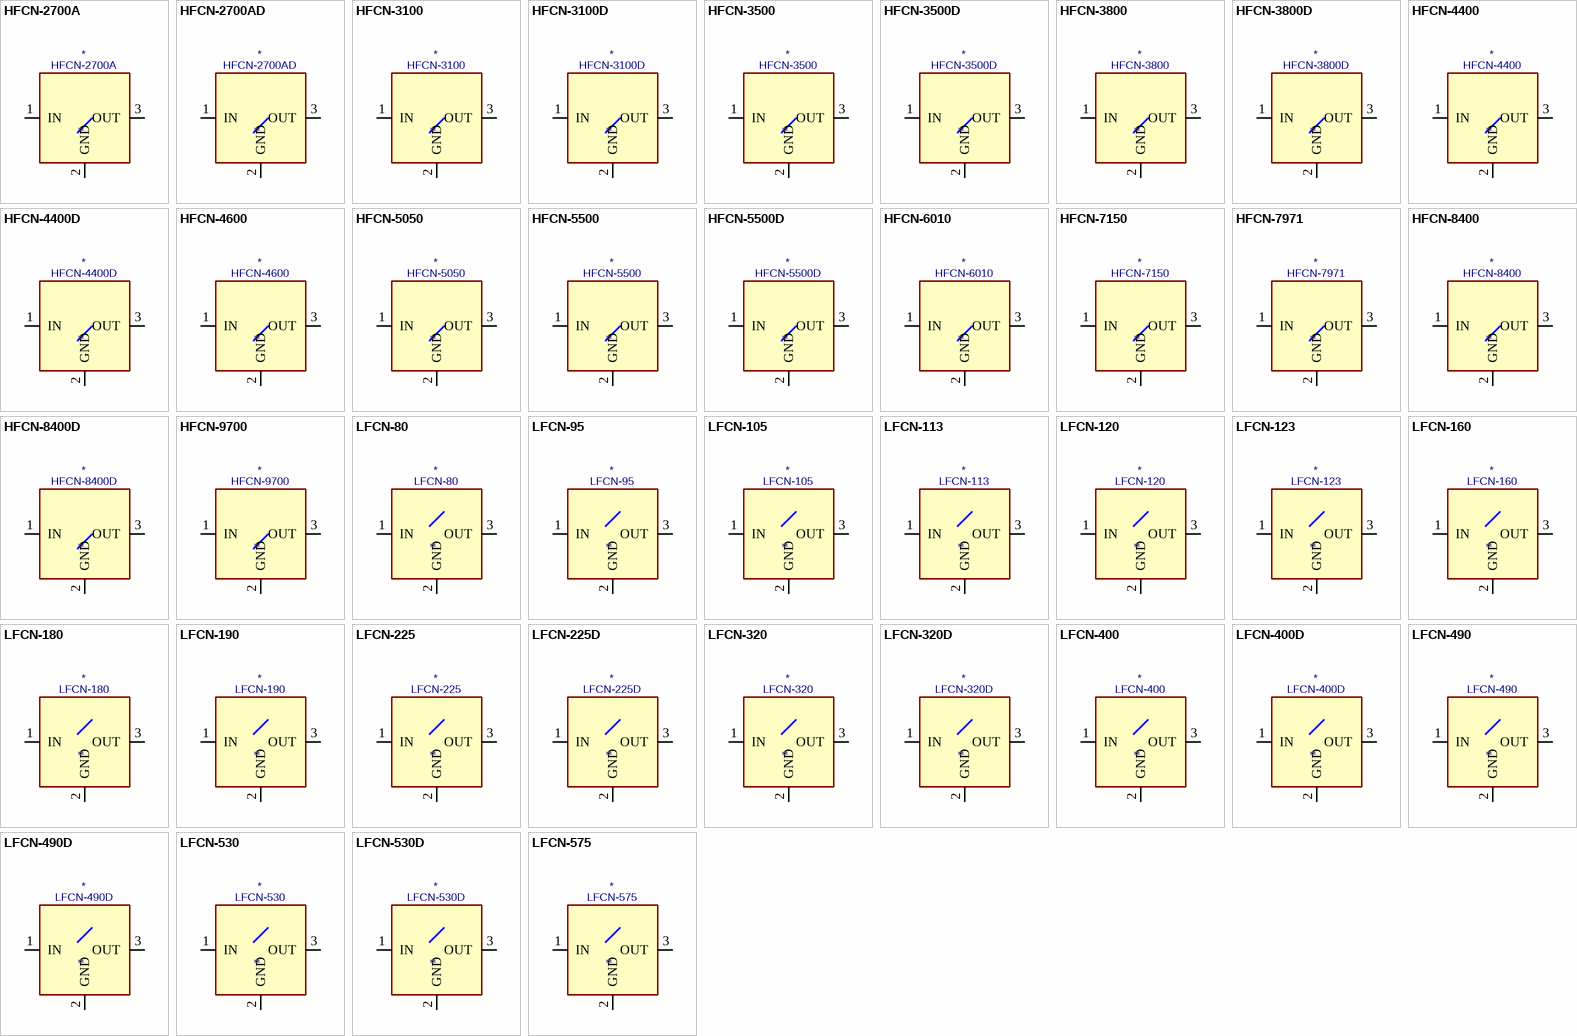
[diagram p2: symbols HFCN-2700A to LFCN-575]

## HFCN-2700A
designator *  value HFCN-2700A
ki_keywords: Mini-Circuits high pass filter; ki_description: 2700MHz 50 Ohm Passive High Pass Filter, FV1206-1; ki_fp_filters: Filter*Mini?Circuits*FV1206?1*; Footprint: Filter:Filter_Mini-Circuits_FV1206-1; Supplier: https://www.minicircuits.com/pdfs/HFCN-2700A+.pdf
footprint Filter_Mini-Circuits_FV1206-1
pins: 1 IN, 2 GND, 3 OUT, 4 GND hidden, 5 GND hidden, 6 GND hidden

## HFCN-2700AD
designator *  value HFCN-2700AD
ki_keywords: Mini-Circuits high pass filter; ki_description: 2700MHz 50 Ohm Passive High Pass Filter, DC capable, FV1206-1; ki_fp_filters: Filter*Mini?Circuits*FV1206?1*; Footprint: Filter:Filter_Mini-Circuits_FV1206-1; Supplier: https://www.minicircuits.com/pdfs/HFCN-2700AD+.pdf
footprint Filter_Mini-Circuits_FV1206-1
pins: 1 IN, 2 GND, 3 OUT, 4 GND hidden, 5 GND hidden, 6 GND hidden

## HFCN-3100
designator *  value HFCN-3100
ki_keywords: Mini-Circuits high pass filter; ki_description: 3100MHz 50 Ohm Passive High Pass Filter, FV1206-1; ki_fp_filters: Filter*Mini?Circuits*FV1206?1*; Footprint: Filter:Filter_Mini-Circuits_FV1206-1; Supplier: https://www.minicircuits.com/pdfs/HFCN-3100+.pdf
footprint Filter_Mini-Circuits_FV1206-1
pins: 1 IN, 2 GND, 3 OUT, 4 GND hidden, 5 GND hidden, 6 GND hidden

## HFCN-3100D
designator *  value HFCN-3100D
ki_keywords: Mini-Circuits high pass filter; ki_description: 3100MHz 50 Ohm Passive High Pass Filter, DC capable, FV1206-1; ki_fp_filters: Filter*Mini?Circuits*FV1206?1*; Footprint: Filter:Filter_Mini-Circuits_FV1206-1; Supplier: https://www.minicircuits.com/pdfs/HFCN-3100D+.pdf
footprint Filter_Mini-Circuits_FV1206-1
pins: 1 IN, 2 GND, 3 OUT, 4 GND hidden, 5 GND hidden, 6 GND hidden

## HFCN-3500
designator *  value HFCN-3500
ki_keywords: Mini-Circuits high pass filter; ki_description: 3500MHz 50 Ohm Passive High Pass Filter, FV1206-1; ki_fp_filters: Filter*Mini?Circuits*FV1206?1*; Footprint: Filter:Filter_Mini-Circuits_FV1206-1; Supplier: https://www.minicircuits.com/pdfs/HFCN-3500+.pdf
footprint Filter_Mini-Circuits_FV1206-1
pins: 1 IN, 2 GND, 3 OUT, 4 GND hidden, 5 GND hidden, 6 GND hidden

## HFCN-3500D
designator *  value HFCN-3500D
ki_keywords: Mini-Circuits high pass filter; ki_description: 3500MHz 50 Ohm Passive High Pass Filter, DC capable, FV1206-1; ki_fp_filters: Filter*Mini?Circuits*FV1206?1*; Footprint: Filter:Filter_Mini-Circuits_FV1206-1; Supplier: https://www.minicircuits.com/pdfs/HFCN-3500D+.pdf
footprint Filter_Mini-Circuits_FV1206-1
pins: 1 IN, 2 GND, 3 OUT, 4 GND hidden, 5 GND hidden, 6 GND hidden

## HFCN-3800
designator *  value HFCN-3800
ki_keywords: Mini-Circuits high pass filter; ki_description: 3800MHz 50 Ohm Passive High Pass Filter, FV1206-1; ki_fp_filters: Filter*Mini?Circuits*FV1206?1*; Footprint: Filter:Filter_Mini-Circuits_FV1206-1; Supplier: https://www.minicircuits.com/pdfs/HFCN-3800+.pdf
footprint Filter_Mini-Circuits_FV1206-1
pins: 1 IN, 2 GND, 3 OUT, 4 GND hidden, 5 GND hidden, 6 GND hidden

## HFCN-3800D
designator *  value HFCN-3800D
ki_keywords: Mini-Circuits high pass filter; ki_description: 3800MHz 50 Ohm Passive High Pass Filter, DC capable, FV1206-1; ki_fp_filters: Filter*Mini?Circuits*FV1206?1*; Footprint: Filter:Filter_Mini-Circuits_FV1206-1; Supplier: https://www.minicircuits.com/pdfs/HFCN-3800D+.pdf
footprint Filter_Mini-Circuits_FV1206-1
pins: 1 IN, 2 GND, 3 OUT, 4 GND hidden, 5 GND hidden, 6 GND hidden

## HFCN-4400
designator *  value HFCN-4400
ki_keywords: Mini-Circuits high pass filter; ki_description: 4400MHz 50 Ohm Passive High Pass Filter, FV1206-1; ki_fp_filters: Filter*Mini?Circuits*FV1206?1*; Footprint: Filter:Filter_Mini-Circuits_FV1206-1; Supplier: https://www.minicircuits.com/pdfs/HFCN-4400+.pdf
footprint Filter_Mini-Circuits_FV1206-1
pins: 1 IN, 2 GND, 3 OUT, 4 GND hidden, 5 GND hidden, 6 GND hidden

## HFCN-4400D
designator *  value HFCN-4400D
ki_keywords: Mini-Circuits high pass filter; ki_description: 4400MHz 50 Ohm Passive High Pass Filter, DC capable, FV1206-1; ki_fp_filters: Filter*Mini?Circuits*FV1206?1*; Footprint: Filter:Filter_Mini-Circuits_FV1206-1; Supplier: https://www.minicircuits.com/pdfs/HFCN-4400D+.pdf
footprint Filter_Mini-Circuits_FV1206-1
pins: 1 IN, 2 GND, 3 OUT, 4 GND hidden, 5 GND hidden, 6 GND hidden

## HFCN-4600
designator *  value HFCN-4600
ki_keywords: Mini-Circuits high pass filter; ki_description: 4600MHz 50 Ohm Passive High Pass Filter, FV1206-1; ki_fp_filters: Filter*Mini?Circuits*FV1206?1*; Footprint: Filter:Filter_Mini-Circuits_FV1206-1; Supplier: https://www.minicircuits.com/pdfs/HFCN-4600+.pdf
footprint Filter_Mini-Circuits_FV1206-1
pins: 1 IN, 2 GND, 3 OUT, 4 GND hidden, 5 GND hidden, 6 GND hidden

## HFCN-5050
designator *  value HFCN-5050
ki_keywords: Mini-Circuits high pass filter; ki_description: 5050MHz 50 Ohm Passive High Pass Filter, FV1206-1; ki_fp_filters: Filter*Mini?Circuits*FV1206?1*; Footprint: Filter:Filter_Mini-Circuits_FV1206-1; Supplier: https://www.minicircuits.com/pdfs/HFCN-5050+.pdf
footprint Filter_Mini-Circuits_FV1206-1
pins: 1 IN, 2 GND, 3 OUT, 4 GND hidden, 5 GND hidden, 6 GND hidden

## HFCN-5500
designator *  value HFCN-5500
ki_keywords: Mini-Circuits high pass filter; ki_description: 5500MHz 50 Ohm Passive High Pass Filter, FV1206-1; ki_fp_filters: Filter*Mini?Circuits*FV1206?1*; Footprint: Filter:Filter_Mini-Circuits_FV1206-1; Supplier: https://www.minicircuits.com/pdfs/HFCN-5500+.pdf
footprint Filter_Mini-Circuits_FV1206-1
pins: 1 IN, 2 GND, 3 OUT, 4 GND hidden, 5 GND hidden, 6 GND hidden

## HFCN-5500D
designator *  value HFCN-5500D
ki_keywords: Mini-Circuits high pass filter; ki_description: 5500MHz 50 Ohm Passive High Pass Filter, DC capable, FV1206-1; ki_fp_filters: Filter*Mini?Circuits*FV1206?1*; Footprint: Filter:Filter_Mini-Circuits_FV1206-1; Supplier: https://www.minicircuits.com/pdfs/HFCN-5500D+.pdf
footprint Filter_Mini-Circuits_FV1206-1
pins: 1 IN, 2 GND, 3 OUT, 4 GND hidden, 5 GND hidden, 6 GND hidden

## HFCN-6010
designator *  value HFCN-6010
ki_keywords: Mini-Circuits high pass filter; ki_description: 6010MHz 50 Ohm Passive High Pass Filter, FV1206-1; ki_fp_filters: Filter*Mini?Circuits*FV1206?1*; Footprint: Filter:Filter_Mini-Circuits_FV1206-1; Supplier: https://www.minicircuits.com/pdfs/HFCN-6010+.pdf
footprint Filter_Mini-Circuits_FV1206-1
pins: 1 IN, 2 GND, 3 OUT, 4 GND hidden, 5 GND hidden, 6 GND hidden

## HFCN-7150
designator *  value HFCN-7150
ki_keywords: Mini-Circuits high pass filter; ki_description: 7150MHz 50 Ohm Passive High Pass Filter, FV1206-1; ki_fp_filters: Filter*Mini?Circuits*FV1206?1*; Footprint: Filter:Filter_Mini-Circuits_FV1206-1; Supplier: https://www.minicircuits.com/pdfs/HFCN-7150+.pdf
footprint Filter_Mini-Circuits_FV1206-1
pins: 1 IN, 2 GND, 3 OUT, 4 GND hidden, 5 GND hidden, 6 GND hidden

## HFCN-7971
designator *  value HFCN-7971
ki_keywords: Mini-Circuits high pass filter; ki_description: 8000MHz 50 Ohm Passive High Pass Filter, FV1206-1; ki_fp_filters: Filter*Mini?Circuits*FV1206?1*; Footprint: Filter:Filter_Mini-Circuits_FV1206-1; Supplier: https://www.minicircuits.com/pdfs/HFCN-7971+.pdf
footprint Filter_Mini-Circuits_FV1206-1
pins: 1 IN, 2 GND, 3 OUT, 4 GND hidden, 5 GND hidden, 6 GND hidden

## HFCN-8400
designator *  value HFCN-8400
ki_keywords: Mini-Circuits high pass filter; ki_description: 8400MHz 50 Ohm Passive High Pass Filter, FV1206-1; ki_fp_filters: Filter*Mini?Circuits*FV1206?1*; Footprint: Filter:Filter_Mini-Circuits_FV1206-1; Supplier: https://www.minicircuits.com/pdfs/HFCN-8400+.pdf
footprint Filter_Mini-Circuits_FV1206-1
pins: 1 IN, 2 GND, 3 OUT, 4 GND hidden, 5 GND hidden, 6 GND hidden

## HFCN-8400D
designator *  value HFCN-8400D
ki_keywords: Mini-Circuits high pass filter; ki_description: 8400MHz 50 Ohm Passive High Pass Filter, DC capable, FV1206-1; ki_fp_filters: Filter*Mini?Circuits*FV1206?1*; Footprint: Filter:Filter_Mini-Circuits_FV1206-1; Supplier: https://www.minicircuits.com/pdfs/HFCN-8400D+.pdf
footprint Filter_Mini-Circuits_FV1206-1
pins: 1 IN, 2 GND, 3 OUT, 4 GND hidden, 5 GND hidden, 6 GND hidden

## HFCN-9700
designator *  value HFCN-9700
ki_keywords: Mini-Circuits high pass filter; ki_description: 9070MHz 50 Ohm Passive High Pass Filter, FV1206-4; ki_fp_filters: Filter*Mini?Circuits*FV1206?4*; Footprint: Filter:Filter_Mini-Circuits_FV1206-4; Supplier: https://www.minicircuits.com/pdfs/HFCN-9700+.pdf
footprint Filter_Mini-Circuits_FV1206-4
pins: 1 IN, 2 GND, 3 OUT, 4 GND hidden

## LFCN-80
designator *  value LFCN-80
ki_keywords: Mini-Circuits low pass filter; ki_description: 80MHz 50 Ohm Passive Low Pass Filter, FV1206; ki_fp_filters: Filter*Mini?Circuits*FV1206*; Footprint: Filter:Filter_Mini-Circuits_FV1206; Supplier: https://www.minicircuits.com/pdfs/LFCN-80+.pdf
footprint Filter_Mini-Circuits_FV1206
pins: 1 IN, 2 GND, 3 OUT, 4 GND hidden

## LFCN-95
designator *  value LFCN-95
ki_keywords: Mini-Circuits low pass filter; ki_description: 95MHz 50 Ohm Passive Low Pass Filter, FV1206; ki_fp_filters: Filter*Mini?Circuits*FV1206*; Footprint: Filter:Filter_Mini-Circuits_FV1206; Supplier: https://www.minicircuits.com/pdfs/LFCN-95+.pdf
footprint Filter_Mini-Circuits_FV1206
pins: 1 IN, 2 GND, 3 OUT, 4 GND hidden

## LFCN-105
designator *  value LFCN-105
ki_keywords: Mini-Circuits low pass filter; ki_description: 105MHz 50 Ohm Passive Low Pass Filter, FV1206; ki_fp_filters: Filter*Mini?Circuits*FV1206*; Footprint: Filter:Filter_Mini-Circuits_FV1206; Supplier: https://www.minicircuits.com/pdfs/LFCN-105+.pdf
footprint Filter_Mini-Circuits_FV1206
pins: 1 IN, 2 GND, 3 OUT, 4 GND hidden

## LFCN-113
designator *  value LFCN-113
ki_keywords: Mini-Circuits low pass filter; ki_description: 11000MHz 50 Ohm Passive Low Pass Filter, FV1206-4; ki_fp_filters: Filter*Mini?Circuits*FV1206?4*; Footprint: Filter:Filter_Mini-Circuits_FV1206-4; Supplier: https://www.minicircuits.com/pdfs/LFCN-113+.pdf
footprint Filter_Mini-Circuits_FV1206-4
pins: 1 IN, 2 GND, 3 OUT, 4 GND hidden

## LFCN-120
designator *  value LFCN-120
ki_keywords: Mini-Circuits low pass filter; ki_description: 120MHz 50 Ohm Passive Low Pass Filter, FV1206; ki_fp_filters: Filter*Mini?Circuits*FV1206*; Footprint: Filter:Filter_Mini-Circuits_FV1206; Supplier: https://www.minicircuits.com/pdfs/LFCN-120+.pdf
footprint Filter_Mini-Circuits_FV1206
pins: 1 IN, 2 GND, 3 OUT, 4 GND hidden

## LFCN-123
designator *  value LFCN-123
ki_keywords: Mini-Circuits low pass filter; ki_description: 12000MHz 50 Ohm Passive Low Pass Filter, FV1206-4; ki_fp_filters: Filter*Mini?Circuits*FV1206?4*; Footprint: Filter:Filter_Mini-Circuits_FV1206-4; Supplier: https://www.minicircuits.com/pdfs/LFCN-123+.pdf
footprint Filter_Mini-Circuits_FV1206-4
pins: 1 IN, 2 GND, 3 OUT, 4 GND hidden

## LFCN-160
designator *  value LFCN-160
ki_keywords: Mini-Circuits low pass filter; ki_description: 160MHz 50 Ohm Passive Low Pass Filter, FV1206; ki_fp_filters: Filter*Mini?Circuits*FV1206*; Footprint: Filter:Filter_Mini-Circuits_FV1206; Supplier: https://www.minicircuits.com/pdfs/LFCN-160+.pdf
footprint Filter_Mini-Circuits_FV1206
pins: 1 IN, 2 GND, 3 OUT, 4 GND hidden

## LFCN-180
designator *  value LFCN-180
ki_keywords: Mini-Circuits low pass filter; ki_description: 180MHz 50 Ohm Passive Low Pass Filter, FV1206; ki_fp_filters: Filter*Mini?Circuits*FV1206*; Footprint: Filter:Filter_Mini-Circuits_FV1206; Supplier: https://www.minicircuits.com/pdfs/LFCN-180+.pdf
footprint Filter_Mini-Circuits_FV1206
pins: 1 IN, 2 GND, 3 OUT, 4 GND hidden

## LFCN-190
designator *  value LFCN-190
ki_keywords: Mini-Circuits low pass filter; ki_description: 190MHz 50 Ohm Passive Low Pass Filter, FV1206; ki_fp_filters: Filter*Mini?Circuits*FV1206*; Footprint: Filter:Filter_Mini-Circuits_FV1206; Supplier: https://www.minicircuits.com/pdfs/LFCN-190+.pdf
footprint Filter_Mini-Circuits_FV1206
pins: 1 IN, 2 GND, 3 OUT, 4 GND hidden

## LFCN-225
designator *  value LFCN-225
ki_keywords: Mini-Circuits low pass filter; ki_description: 225MHz 50 Ohm Passive Low Pass Filter, FV1206; ki_fp_filters: Filter*Mini?Circuits*FV1206*; Footprint: Filter:Filter_Mini-Circuits_FV1206; Supplier: https://www.minicircuits.com/pdfs/LFCN-225+.pdf
footprint Filter_Mini-Circuits_FV1206
pins: 1 IN, 2 GND, 3 OUT, 4 GND hidden

## LFCN-225D
designator *  value LFCN-225D
ki_keywords: Mini-Circuits low pass filter; ki_description: 225MHz 50 Ohm Passive Low Pass Filter, DC capable, FV1206; ki_fp_filters: Filter*Mini?Circuits*FV1206*; Footprint: Filter:Filter_Mini-Circuits_FV1206; Supplier: https://www.minicircuits.com/pdfs/LFCN-225D+.pdf
footprint Filter_Mini-Circuits_FV1206
pins: 1 IN, 2 GND, 3 OUT, 4 GND hidden

## LFCN-320
designator *  value LFCN-320
ki_keywords: Mini-Circuits low pass filter; ki_description: 320MHz 50 Ohm Passive Low Pass Filter, FV1206; ki_fp_filters: Filter*Mini?Circuits*FV1206*; Footprint: Filter:Filter_Mini-Circuits_FV1206; Supplier: https://www.minicircuits.com/pdfs/LFCN-320+.pdf
footprint Filter_Mini-Circuits_FV1206
pins: 1 IN, 2 GND, 3 OUT, 4 GND hidden

## LFCN-320D
designator *  value LFCN-320D
ki_keywords: Mini-Circuits low pass filter; ki_description: 320MHz 50 Ohm Passive Low Pass Filter, DC capable, FV1206; ki_fp_filters: Filter*Mini?Circuits*FV1206*; Footprint: Filter:Filter_Mini-Circuits_FV1206; Supplier: https://www.minicircuits.com/pdfs/LFCN-320D+.pdf
footprint Filter_Mini-Circuits_FV1206
pins: 1 IN, 2 GND, 3 OUT, 4 GND hidden

## LFCN-400
designator *  value LFCN-400
ki_keywords: Mini-Circuits low pass filter; ki_description: 400MHz 50 Ohm Passive Low Pass Filter, FV1206; ki_fp_filters: Filter*Mini?Circuits*FV1206*; Footprint: Filter:Filter_Mini-Circuits_FV1206; Supplier: https://www.minicircuits.com/pdfs/LFCN-400+.pdf
footprint Filter_Mini-Circuits_FV1206
pins: 1 IN, 2 GND, 3 OUT, 4 GND hidden

## LFCN-400D
designator *  value LFCN-400D
ki_keywords: Mini-Circuits low pass filter; ki_description: 400MHz 50 Ohm Passive Low Pass Filter, DC capable, FV1206; ki_fp_filters: Filter*Mini?Circuits*FV1206*; Footprint: Filter:Filter_Mini-Circuits_FV1206; Supplier: https://www.minicircuits.com/pdfs/LFCN-400D+.pdf
footprint Filter_Mini-Circuits_FV1206
pins: 1 IN, 2 GND, 3 OUT, 4 GND hidden

## LFCN-490
designator *  value LFCN-490
ki_keywords: Mini-Circuits low pass filter; ki_description: 490MHz 50 Ohm Passive Low Pass Filter, FV1206; ki_fp_filters: Filter*Mini?Circuits*FV1206*; Footprint: Filter:Filter_Mini-Circuits_FV1206; Supplier: https://www.minicircuits.com/pdfs/LFCN-490+.pdf
footprint Filter_Mini-Circuits_FV1206
pins: 1 IN, 2 GND, 3 OUT, 4 GND hidden

## LFCN-490D
designator *  value LFCN-490D
ki_keywords: Mini-Circuits low pass filter; ki_description: 490MHz 50 Ohm Passive Low Pass Filter, DC capable, FV1206; ki_fp_filters: Filter*Mini?Circuits*FV1206*; Footprint: Filter:Filter_Mini-Circuits_FV1206; Supplier: https://www.minicircuits.com/pdfs/LFCN-490D+.pdf
footprint Filter_Mini-Circuits_FV1206
pins: 1 IN, 2 GND, 3 OUT, 4 GND hidden

## LFCN-530
designator *  value LFCN-530
ki_keywords: Mini-Circuits low pass filter; ki_description: 530MHz 50 Ohm Passive Low Pass Filter, FV1206; ki_fp_filters: Filter*Mini?Circuits*FV1206*; Footprint: Filter:Filter_Mini-Circuits_FV1206; Supplier: https://www.minicircuits.com/pdfs/LFCN-530+.pdf
footprint Filter_Mini-Circuits_FV1206
pins: 1 IN, 2 GND, 3 OUT, 4 GND hidden

## LFCN-530D
designator *  value LFCN-530D
ki_keywords: Mini-Circuits low pass filter; ki_description: 530MHz 50 Ohm Passive Low Pass Filter, DC capable, FV1206; ki_fp_filters: Filter*Mini?Circuits*FV1206*; Footprint: Filter:Filter_Mini-Circuits_FV1206; Supplier: https://www.minicircuits.com/pdfs/LFCN-530D+.pdf
footprint Filter_Mini-Circuits_FV1206
pins: 1 IN, 2 GND, 3 OUT, 4 GND hidden

## LFCN-575
designator *  value LFCN-575
ki_keywords: Mini-Circuits low pass filter; ki_description: 575MHz 50 Ohm Passive Low Pass Filter, FV1206; ki_fp_filters: Filter*Mini?Circuits*FV1206*; Footprint: Filter:Filter_Mini-Circuits_FV1206; Supplier: https://www.minicircuits.com/pdfs/LFCN-575+.pdf
footprint Filter_Mini-Circuits_FV1206
pins: 1 IN, 2 GND, 3 OUT, 4 GND hidden

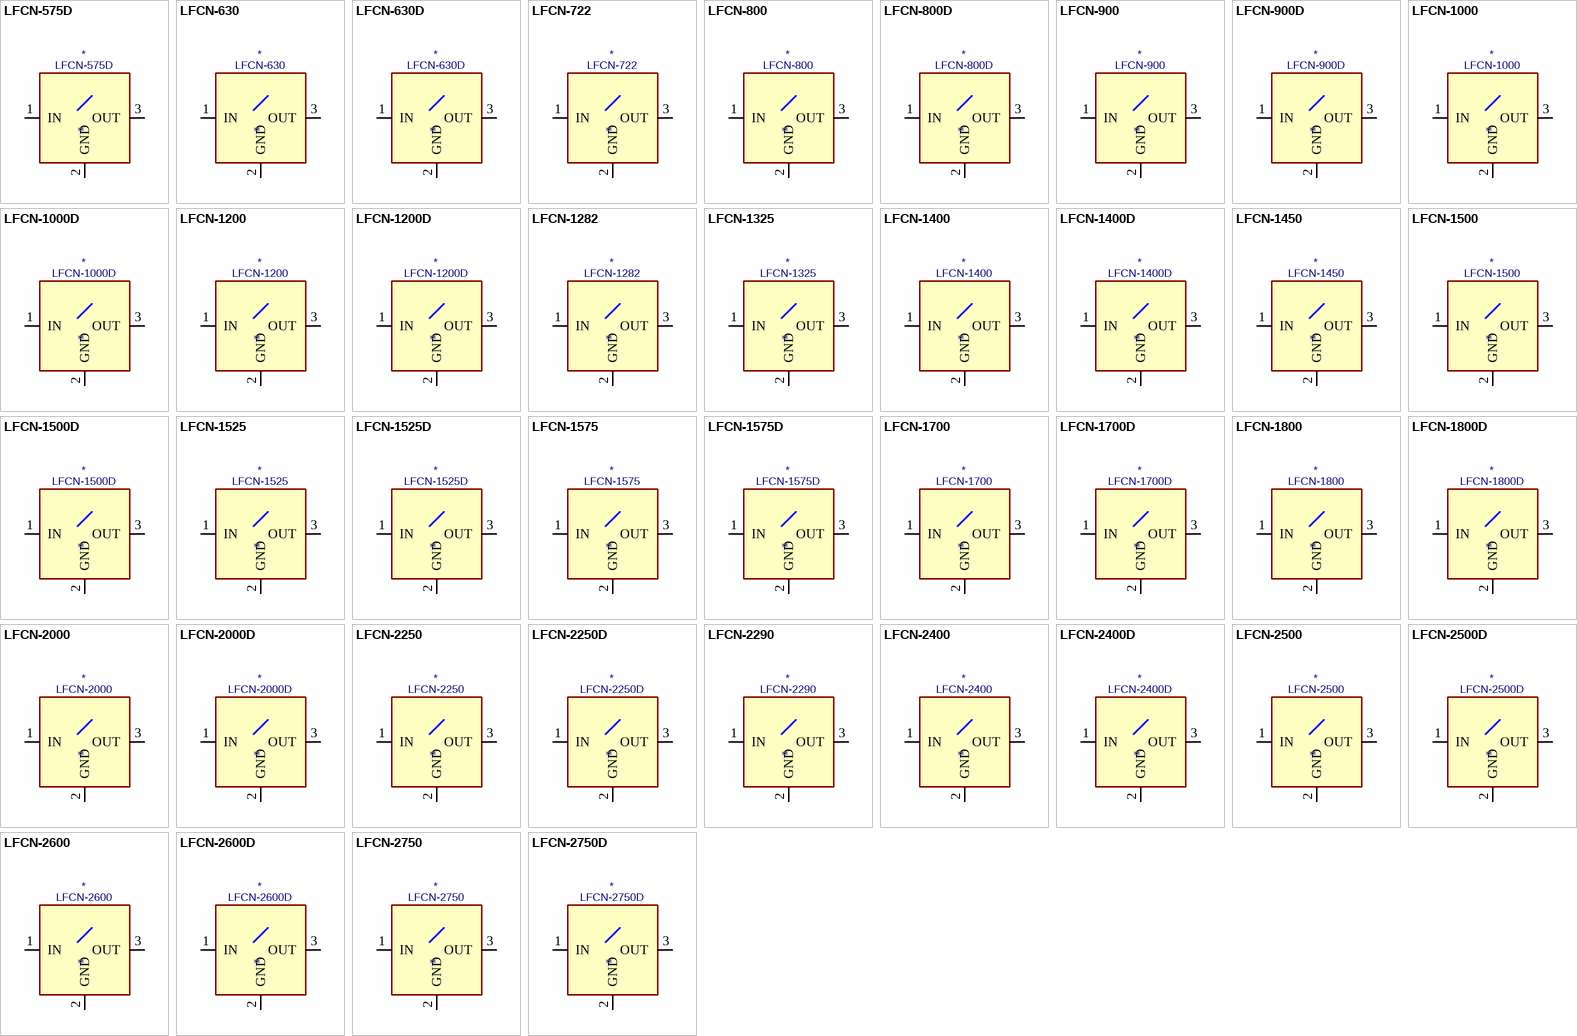
[diagram p3: symbols LFCN-575D to LFCN-2750D]

## LFCN-575D
designator *  value LFCN-575D
ki_keywords: Mini-Circuits low pass filter; ki_description: 575MHz 50 Ohm Passive Low Pass Filter, DC capable, FV1206; ki_fp_filters: Filter*Mini?Circuits*FV1206*; Footprint: Filter:Filter_Mini-Circuits_FV1206; Supplier: https://www.minicircuits.com/pdfs/LFCN-575D+.pdf
footprint Filter_Mini-Circuits_FV1206
pins: 1 IN, 2 GND, 3 OUT, 4 GND hidden

## LFCN-630
designator *  value LFCN-630
ki_keywords: Mini-Circuits low pass filter; ki_description: 630MHz 50 Ohm Passive Low Pass Filter, FV1206; ki_fp_filters: Filter*Mini?Circuits*FV1206*; Footprint: Filter:Filter_Mini-Circuits_FV1206; Supplier: https://www.minicircuits.com/pdfs/LFCN-630+.pdf
footprint Filter_Mini-Circuits_FV1206
pins: 1 IN, 2 GND, 3 OUT, 4 GND hidden

## LFCN-630D
designator *  value LFCN-630D
ki_keywords: Mini-Circuits low pass filter; ki_description: 630MHz 50 Ohm Passive Low Pass Filter, DC capable, FV1206; ki_fp_filters: Filter*Mini?Circuits*FV1206*; Footprint: Filter:Filter_Mini-Circuits_FV1206; Supplier: https://www.minicircuits.com/pdfs/LFCN-630D+.pdf
footprint Filter_Mini-Circuits_FV1206
pins: 1 IN, 2 GND, 3 OUT, 4 GND hidden

## LFCN-722
designator *  value LFCN-722
ki_keywords: Mini-Circuits low pass filter; ki_description: 7200MHz 50 Ohm Passive Low Pass Filter, FV1206; ki_fp_filters: Filter*Mini?Circuits*FV1206*; Footprint: Filter:Filter_Mini-Circuits_FV1206; Supplier: https://www.minicircuits.com/pdfs/LFCN-722+.pdf
footprint Filter_Mini-Circuits_FV1206
pins: 1 IN, 2 GND, 3 OUT, 4 GND hidden

## LFCN-800
designator *  value LFCN-800
ki_keywords: Mini-Circuits low pass filter; ki_description: 800MHz 50 Ohm Passive Low Pass Filter, FV1206; ki_fp_filters: Filter*Mini?Circuits*FV1206*; Footprint: Filter:Filter_Mini-Circuits_FV1206; Supplier: https://www.minicircuits.com/pdfs/LFCN-800+.pdf
footprint Filter_Mini-Circuits_FV1206
pins: 1 IN, 2 GND, 3 OUT, 4 GND hidden